# Altium footprint library diode.PcbLib: 63 footprints (part 1 of 4)
Each footprint in its own frame and in the unit in brackets; x right, y up, seen from the top. Pads: shape width x height; smd on the part's side, far side on the other; paste and mask are expansions set on the pad; w line width, h text height; cw(c..) or ccw(c..) is an arc to the next point about the centre after c.
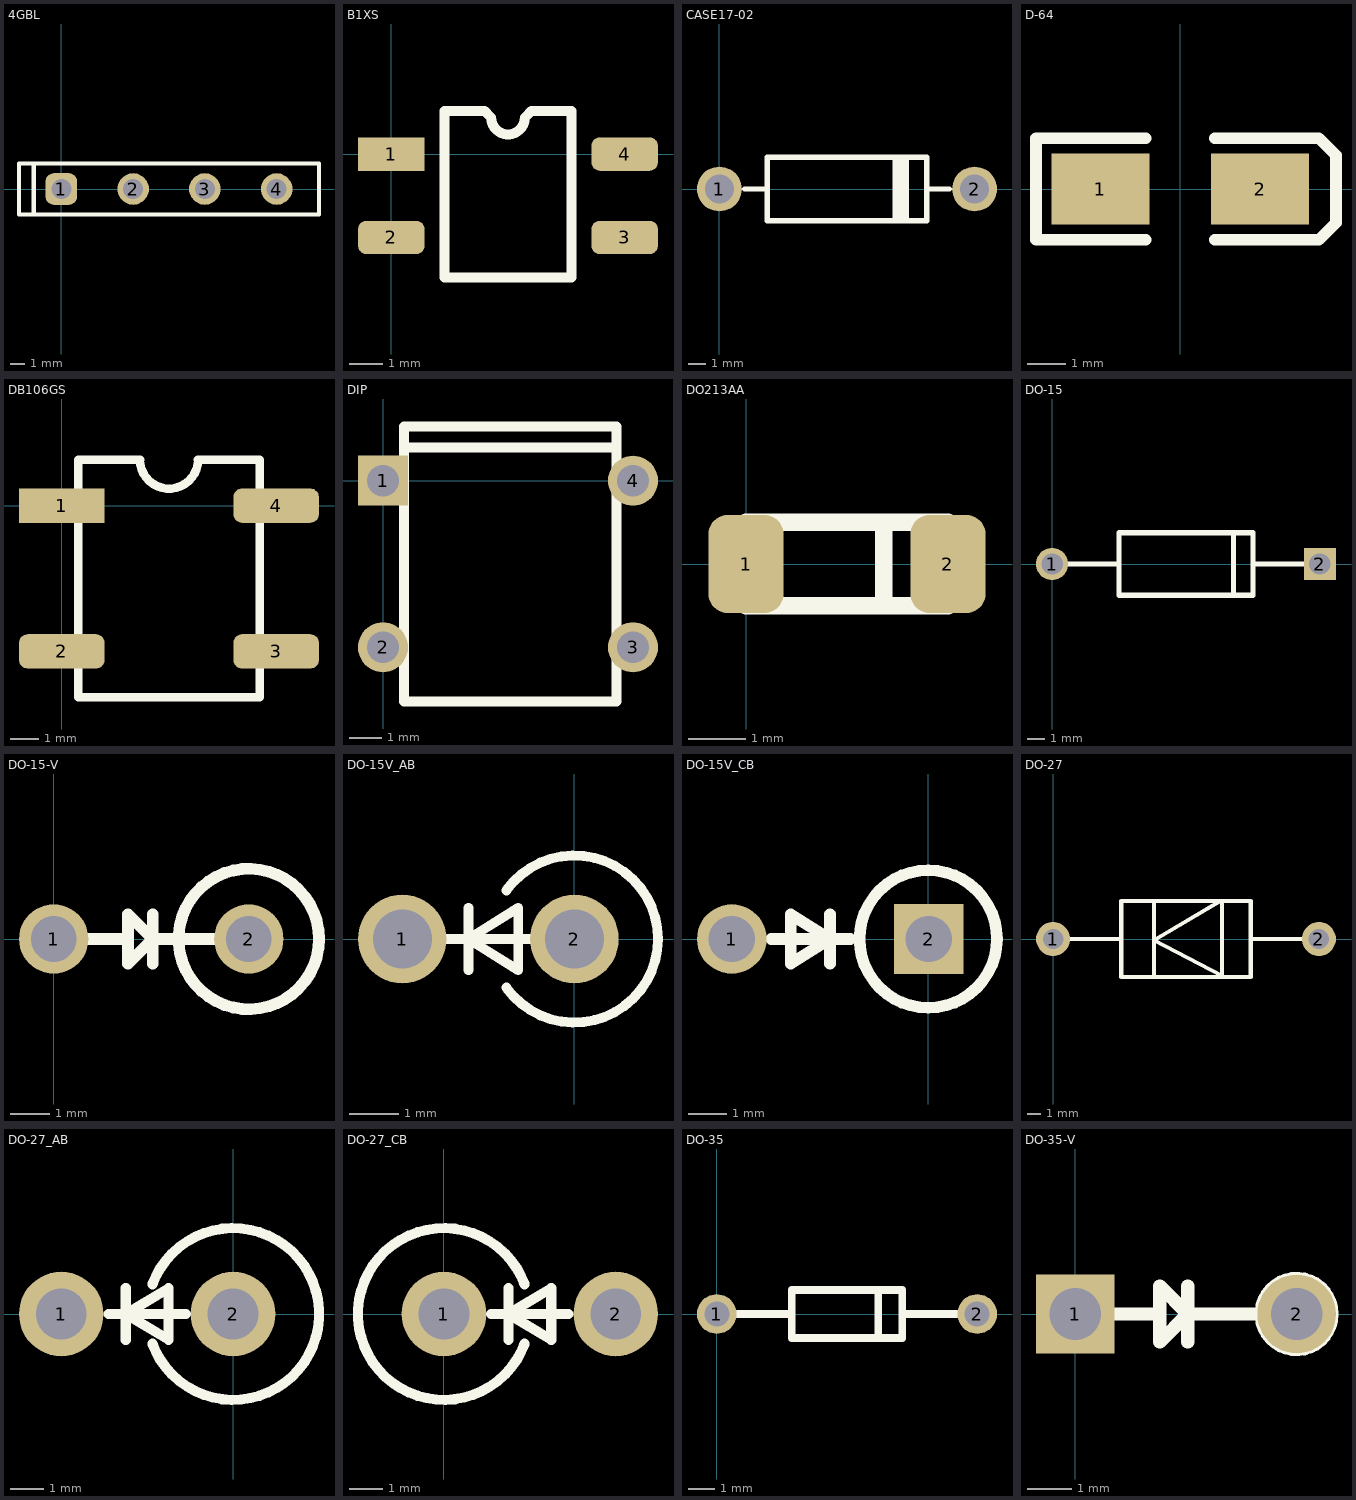
[diagram p0: the footprints below, top view; thin cyan lines are the x and y axes]

## 4GBL [mm]
pads (4):
  rrect50% 2.2x2.2 hole 1.4: 1(0,0)
  round 2.2 hole 1.4: 2(5,0) 3(10,0) 4(15,0)
Top Overlay:
  lines w0.3: -1.93,-1.78 -1.93,1.78 ; -2.95,-1.78 17.95,-1.78 17.95,1.78 -2.95,1.78 -2.95,-1.78

## B1XS [mm]
pads (4):
  rect 2x1 smd: 1(0,0)
  rrect50% 2x1 smd: 2(0,-2.5) 3(7,-2.5) 4(7,0)
Top Overlay:
  lines w0.3: 1.6,-3.7 5.4,-3.7 5.4,1.3 4.208,1.3 4.008,1.1 cw(c3.5,1.1) 2.992,1.1 2.792,1.3 1.6,1.3 1.6,-3.7
3D body "User Library-DB1-MS.STEP": height 2.9, standoff 0, extent -0.275,-3.7 7.325,1.2

## CASE17-02 [mm]
pads (2):
  round 2.5 hole 1.6: 1(0,0) 2(14.224,0)
Top Overlay:
  region: 9.652,1.778 9.652,-1.778 10.541,-1.778 10.541,1.778
  lines w0.3: 1.397,0 2.667,0 ; 11.557,0 12.827,0 ; 2.667,-1.778 11.557,-1.778 11.557,1.778 2.667,1.778 2.667,-1.778

## D-64 [mm]
pads (2):
  rect 2.55x1.85 smd: 1(-2.075,0) 2(2.075,0)
Top Overlay:
  lines w0.3: -0.9,-1.325 -3.75,-1.325 -3.75,1.325 -0.9,1.325 ; 0.9,-1.325 3.6,-1.325 4.05,-0.875 4.05,0.875 3.6,1.325 0.9,1.325
3D body "User Library-15MQ040N (2).STEP": height 2.44, standoff 0, extent -2.607,-1.45 2.707,1.45

## DB106GS [mm]
pads (4):
  rect 3x1.2 smd: 1(0,0)
  rrect50% 3x1.2 smd: 2(0,-5.1) 3(7.5,-5.1) 4(7.5,0)
Top Overlay:
  lines w0.3: 0.575,-6.71 6.925,-6.71 6.925,1.61 4.766,1.61 cw(c3.75,1.61) 2.734,1.61 0.575,1.61 0.575,-6.71

## DIP [mil]
pads (4):
  rect 60x60 hole 38: 1(0,0)
  round 60 hole 38: 2(0,-200) 3(300,-200) 4(300,0)
Top Overlay:
  lines w11.81: 25,40 280,40 ; 25,-265 25,65 280,65 280,-265 25,-265

## DO213AA [mm]
pads (2):
  rrect50% 1.3x1.7 smd: 1(0,0) 2(3.5,0)
Top Overlay:
  lines w0.3: 2.385,-0.635 2.385,0.635 ; 0,-0.725 0,0.725 3.5,0.725 3.5,-0.725 0,-0.725
3D body "DO-213AA_case.sldprt": height 1.64, standoff -0.04, extent -0.062,-0.84 3.618,0.84

## DO-15 [mm]
pads (2):
  round 1.8 hole 1.2: 1(0,0)
  rect 1.8x1.8 hole 1.2: 2(15,0)
Top Overlay:
  lines w0.3: 0,0 3.7,0 ; 10.16,-1.75 10.16,1.75 ; 11.3,0 15,0 ; 3.75,-1.75 3.75,1.75 11.25,1.75 11.25,-1.75 3.75,-1.75

## DO-15-V [mil]
pads (2):
  round 70 hole 46: 1(0,0) 2(196.85,0)
Top Overlay:
  circle w11.81: c196.85,0 r70.87
  lines w11.81: 0,0 75,0 ; 100,-25 100,25 ; 200,0 100,0 ; 100,0 75,-25 75,25 100,0
3D body "User Library-DO-41 Vert 5_08mm.step": height 410.63, standoff -47.24, extent -19.88,-53.15 250.2,53.15

## DO-15V_AB [mm]
pads (2):
  round 1.8 hole 1.2: 1(-3.5,0) 2(0,0)
Top Overlay:
  lines w0.2: -2.664,0 -0.618,0 ; -2.156,-0.635 -2.156,0.635 ; -1.383,-0.988 ccw(c0,0) -1.383,0.988 ; -2.156,0 -1.14,-0.635 -1.14,0.635 -2.156,0
3D body "User Library-DO-15-Vertical_100.STEP": height 11.05, standoff -4, extent -3.915,-1.8 1.815,1.799

## DO-15V_CB [mm]
pads (2):
  round 1.8 hole 1.2: 1(-5.08,0)
  rect 1.8x1.8 hole 1.2: 2(0.014,0)
Top Overlay:
  circle w0.3: c0,0 r1.778
  lines w0.3: -4.064,0 -2.018,0 ; -2.54,-0.635 -2.54,0.635 ; -3.556,-0.635 -3.556,0.635 -2.54,0 -3.556,-0.635

## DO-27 [mm]
pads (2):
  round 2.5 hole 1.5: 1(0,0) 2(19.5,0)
Top Overlay:
  lines w0.3: 0,0 5,0 ; 7.4,-2.8 7.4,2.8 ; 12.3,2.8 7.4,-0.1 12.4,-2.7 12.4,2.8 ; 14.5,0 19.5,0 ; 5,0 5,2.8 14.5,2.8 14.5,-2.8 5,-2.8 5,0

## DO-27_AB [mm]
pads (2):
  round 2.5 hole 1.5: 1(-5.08,0) 2(0,0)
Top Overlay:
  lines w0.3: -3.683,0 -1.397,0 ; -3.175,-0.762 -3.175,0.762 ; -2.387,-0.869 ccw(c0,0) -2.387,0.869 ; -3.175,0 -1.905,0.762 -1.905,-0.762 -3.175,0

## DO-27_CB [mm]
pads (2):
  round 2.5 hole 1.5: 1(0,0) 2(5.08,0)
Top Overlay:
  lines w0.3: 1.397,0 3.683,0 ; 1.905,-0.762 1.905,0.762 ; 2.387,-0.869 cw(c0,0) 2.387,0.869 ; 1.905,0 3.175,0.762 3.175,-0.762 1.905,0

## DO-35 [mil]
pads (2):
  round 60 hole 38: 1(0,0) 2(393.7,0)
Top Overlay:
  lines w11.81: -3.15,0 113.19,0 ; 244.09,-36.42 244.09,36.42 ; 280.51,0 396.85,0 ; 113.19,-36.42 280.51,-36.42 280.51,36.42 113.19,36.42 113.19,-36.42

## DO-35-V [mil]
pads (2):
  rect 70x70 hole 46: 1(0,0)
  round 70 hole 46: 2(196.85,0)
Top Overlay:
  circle w11.81: c196.85,0 r31.5
  lines w11.81: 0,0 75,0 ; 100,-25 100,25 ; 200,0 100,0 ; 100,0 75,-25 75,25 100,0